# EAGLE library part NC7WZ16 (library fairchild)
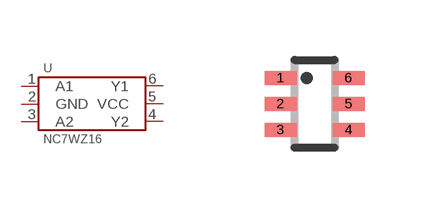
[diagram p0: symbol with the pads of SC-70-6; footprint SC-70-6]

Designator prefix U

## NC7WZ16  [SC-70-6]
1  A1
2  GND
3  A2
4  Y2
5  VCC
6  Y1

## Footprint SC-70-6 (pad centres in mm)
smd 0.8 x 0.35: 1 -0.85,0.65; 2 -0.85,0; 3 -0.85,-0.65; 4 0.85,-0.65; 5 0.85,0; 6 0.85,0.65